# Altium integrated library Maxim Digital Potentiometers.IntLib: 1045 symbols (part 28 of 42)
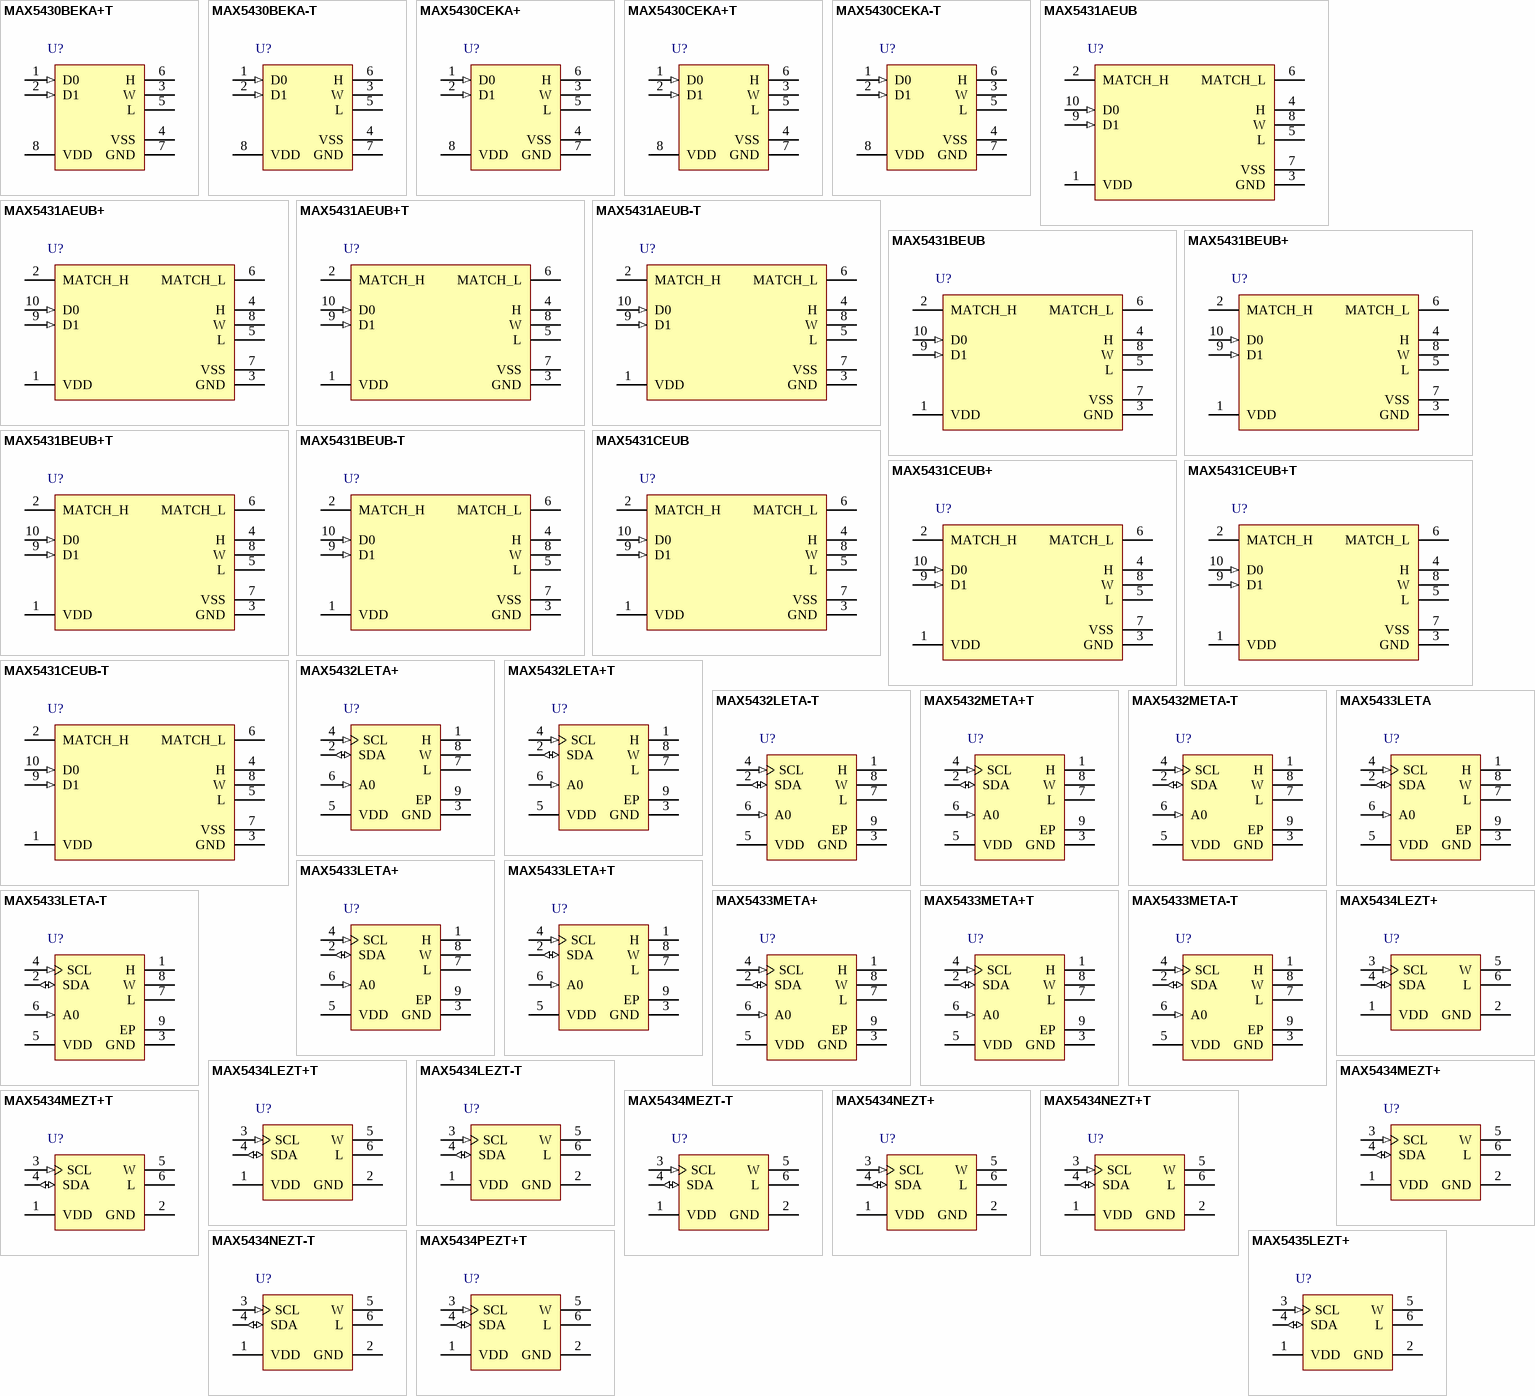
[diagram p56: symbols MAX5430BEKA+T to MAX5435LEZT+]

## MAX5431AEUB-T
designator U?
+/-15 V Digitally Programmable Precision Voltage Divider for PGAs with 2-Wire Parallel Control Interface, Volatile, 4 Steps, -40 to 85 degC, 10-pin uMAX (U10-2), Tape and Reel; PartNumber: MAX5431AEUB-T; DatasheetVersion: Rev. 2; PackageVersion: Rev. L, 07/2008; PackageReference: U10-2; PackageDescription: 10-Pin Micro-MAX, Thin Shrink Small-Outline (U10-2), Body 3 x 3 mm, Pitch 0.5 mm; Supplier 1: Mouser; Supplier Part Number 1: N/A; Applications: Precision Voltage Divider; Control Interface: 2-Wire Parallel; Features: Op-Amp Input Bias Current Comp. Resistor; Mounting Technology: Surface Mount; Code_JEDEC: MO-187; ComponentLink1Description: Manufacturer URL; ComponentLink1URL: http://www.maximintegrated.com/; ComponentLink2Description: Datasheet; ComponentLink2URL: http://datasheets.maximintegrated.com/en/ds/MAX5430-MAX5431.pdf; ComponentLink3Description: Package Specification; ComponentLink3URL: http://pdfserv.maximintegrated.com/package_dwgs/21-0061.PDF
footprint MAXM-U10-2_N (SOP, 10-Leads, Body 3x3mm, Pitch 0.5mm, IPC Medium Density)
footprint MAXM-U10-2_L (SOP, 10-Leads, Body 3x3mm, Pitch 0.5mm, IPC High Density)
footprint MAXM-U10-2_M (SOP, 10-Leads, Body 3x3mm, Pitch 0.5mm, IPC Low Density)
pins: 1 VDD (power) "Positive Power Supply", 2 MATCH_H "Matching Resistor High Terminal", 3 GND (power) "Ground", 4 H "High Terminal of Resistive-Divider", 5 L "Low Terminal of Resistive-Divider", 6 MATCH_L "Matching Resistor Low Terminal", 7 VSS (power) "Negative Power Supply", 8 W "Wiper Terminal of Resistive-Divider", 9 D1 (in) "Second Bit Digital Input (MSB)", 10 D0 (in) "First Bit Digital Input (LSB)"

## MAX5431BEUB
designator U?
+/-15 V Digitally Programmable Precision Voltage Divider for PGAs with 2-Wire Parallel Control Interface, Volatile, 4 Steps, -40 to 85 degC, 10-pin uMAX (U10-2); PartNumber: MAX5431BEUB; DatasheetVersion: Rev. 2; PackageVersion: Rev. L, 07/2008; PackageReference: U10-2; PackageDescription: 10-Pin Micro-MAX, Thin Shrink Small-Outline (U10-2), Body 3 x 3 mm, Pitch 0.5 mm; Supplier 1: Mouser; Supplier Part Number 1: N/A; Applications: Precision Voltage Divider; Control Interface: 2-Wire Parallel; Features: Op-Amp Input Bias Current Comp. Resistor; Mounting Technology: Surface Mount; Code_JEDEC: MO-187; ComponentLink1Description: Manufacturer URL; ComponentLink1URL: http://www.maximintegrated.com/; ComponentLink2Description: Datasheet; ComponentLink2URL: http://datasheets.maximintegrated.com/en/ds/MAX5430-MAX5431.pdf; ComponentLink3Description: Package Specification; ComponentLink3URL: http://pdfserv.maximintegrated.com/package_dwgs/21-0061.PDF
footprint MAXM-U10-2_N (SOP, 10-Leads, Body 3x3mm, Pitch 0.5mm, IPC Medium Density)
footprint MAXM-U10-2_L (SOP, 10-Leads, Body 3x3mm, Pitch 0.5mm, IPC High Density)
footprint MAXM-U10-2_M (SOP, 10-Leads, Body 3x3mm, Pitch 0.5mm, IPC Low Density)
pins: 1 VDD (power) "Positive Power Supply", 2 MATCH_H "Matching Resistor High Terminal", 3 GND (power) "Ground", 4 H "High Terminal of Resistive-Divider", 5 L "Low Terminal of Resistive-Divider", 6 MATCH_L "Matching Resistor Low Terminal", 7 VSS (power) "Negative Power Supply", 8 W "Wiper Terminal of Resistive-Divider", 9 D1 (in) "Second Bit Digital Input (MSB)", 10 D0 (in) "First Bit Digital Input (LSB)"

## MAX5431BEUB+
designator U?
+/-15 V Digitally Programmable Precision Voltage Divider for PGAs with 2-Wire Parallel Control Interface, Volatile, 4 Steps, -40 to 85 degC, 10-pin uMAX (U10+2), Pb-Free; PartNumber: MAX5431BEUB+; DatasheetVersion: Rev. 2; PackageVersion: Rev. L, 07/2008; PackageReference: U10+2; PackageDescription: 10-Pin Micro-MAX, Thin Shrink Small-Outline (U10+2), Body 3 x 3 mm, Pitch 0.5 mm; Supplier 1: Digi-Key; Supplier Part Number 1: MAX5431BEUB+-ND; Supplier 2: Mouser; Supplier Part Number 2: 700-MAX5431BEUB; Applications: Precision Voltage Divider; Control Interface: 2-Wire Parallel; Features: Op-Amp Input Bias Current Comp. Resistor; Mounting Technology: Surface Mount; Code_JEDEC: MO-187; ComponentLink1Description: Manufacturer URL; ComponentLink1URL: http://www.maximintegrated.com/; ComponentLink2Description: Datasheet; ComponentLink2URL: http://datasheets.maximintegrated.com/en/ds/MAX5430-MAX5431.pdf; ComponentLink3Description: Package Specification; ComponentLink3URL: http://pdfserv.maximintegrated.com/package_dwgs/21-0061.PDF
footprint MAXM-U10+2_N (SOP, 10-Leads, Body 3x3mm, Pitch 0.5mm, IPC Medium Density)
footprint MAXM-U10+2_L (SOP, 10-Leads, Body 3x3mm, Pitch 0.5mm, IPC High Density)
footprint MAXM-U10+2_M (SOP, 10-Leads, Body 3x3mm, Pitch 0.5mm, IPC Low Density)
pins: 1 VDD (power) "Positive Power Supply", 2 MATCH_H "Matching Resistor High Terminal", 3 GND (power) "Ground", 4 H "High Terminal of Resistive-Divider", 5 L "Low Terminal of Resistive-Divider", 6 MATCH_L "Matching Resistor Low Terminal", 7 VSS (power) "Negative Power Supply", 8 W "Wiper Terminal of Resistive-Divider", 9 D1 (in) "Second Bit Digital Input (MSB)", 10 D0 (in) "First Bit Digital Input (LSB)"

## MAX5431BEUB+T
designator U?
+/-15 V Digitally Programmable Precision Voltage Divider for PGAs with 2-Wire Parallel Control Interface, Volatile, 4 Steps, -40 to 85 degC, 10-pin uMAX (U10+2), Pb-Free, Tape and Reel; PartNumber: MAX5431BEUB+T; DatasheetVersion: Rev. 2; PackageVersion: Rev. L, 07/2008; PackageReference: U10+2; PackageDescription: 10-Pin Micro-MAX, Thin Shrink Small-Outline (U10+2), Body 3 x 3 mm, Pitch 0.5 mm; Supplier 1: Digi-Key; Supplier Part Number 1: MAX5431BEUB+T-ND; Supplier 2: Mouser; Supplier Part Number 2: 700-MAX5431BEUBT; Applications: Precision Voltage Divider; Control Interface: 2-Wire Parallel; Features: Op-Amp Input Bias Current Comp. Resistor; Mounting Technology: Surface Mount; Code_JEDEC: MO-187; ComponentLink1Description: Manufacturer URL; ComponentLink1URL: http://www.maximintegrated.com/; ComponentLink2Description: Datasheet; ComponentLink2URL: http://datasheets.maximintegrated.com/en/ds/MAX5430-MAX5431.pdf; ComponentLink3Description: Package Specification; ComponentLink3URL: http://pdfserv.maximintegrated.com/package_dwgs/21-0061.PDF
footprint MAXM-U10+2_N (SOP, 10-Leads, Body 3x3mm, Pitch 0.5mm, IPC Medium Density)
footprint MAXM-U10+2_L (SOP, 10-Leads, Body 3x3mm, Pitch 0.5mm, IPC High Density)
footprint MAXM-U10+2_M (SOP, 10-Leads, Body 3x3mm, Pitch 0.5mm, IPC Low Density)
pins: 1 VDD (power) "Positive Power Supply", 2 MATCH_H "Matching Resistor High Terminal", 3 GND (power) "Ground", 4 H "High Terminal of Resistive-Divider", 5 L "Low Terminal of Resistive-Divider", 6 MATCH_L "Matching Resistor Low Terminal", 7 VSS (power) "Negative Power Supply", 8 W "Wiper Terminal of Resistive-Divider", 9 D1 (in) "Second Bit Digital Input (MSB)", 10 D0 (in) "First Bit Digital Input (LSB)"

## MAX5431BEUB-T
designator U?
+/-15 V Digitally Programmable Precision Voltage Divider for PGAs with 2-Wire Parallel Control Interface, Volatile, 4 Steps, -40 to 85 degC, 10-pin uMAX (U10-2), Tape and Reel; PartNumber: MAX5431BEUB-T; DatasheetVersion: Rev. 2; PackageVersion: Rev. L, 07/2008; PackageReference: U10-2; PackageDescription: 10-Pin Micro-MAX, Thin Shrink Small-Outline (U10-2), Body 3 x 3 mm, Pitch 0.5 mm; Supplier 1: Mouser; Supplier Part Number 1: N/A; Applications: Precision Voltage Divider; Control Interface: 2-Wire Parallel; Features: Op-Amp Input Bias Current Comp. Resistor; Mounting Technology: Surface Mount; Code_JEDEC: MO-187; ComponentLink1Description: Manufacturer URL; ComponentLink1URL: http://www.maximintegrated.com/; ComponentLink2Description: Datasheet; ComponentLink2URL: http://datasheets.maximintegrated.com/en/ds/MAX5430-MAX5431.pdf; ComponentLink3Description: Package Specification; ComponentLink3URL: http://pdfserv.maximintegrated.com/package_dwgs/21-0061.PDF
footprint MAXM-U10-2_N (SOP, 10-Leads, Body 3x3mm, Pitch 0.5mm, IPC Medium Density)
footprint MAXM-U10-2_L (SOP, 10-Leads, Body 3x3mm, Pitch 0.5mm, IPC High Density)
footprint MAXM-U10-2_M (SOP, 10-Leads, Body 3x3mm, Pitch 0.5mm, IPC Low Density)
pins: 1 VDD (power) "Positive Power Supply", 2 MATCH_H "Matching Resistor High Terminal", 3 GND (power) "Ground", 4 H "High Terminal of Resistive-Divider", 5 L "Low Terminal of Resistive-Divider", 6 MATCH_L "Matching Resistor Low Terminal", 7 VSS (power) "Negative Power Supply", 8 W "Wiper Terminal of Resistive-Divider", 9 D1 (in) "Second Bit Digital Input (MSB)", 10 D0 (in) "First Bit Digital Input (LSB)"

## MAX5431CEUB
designator U?
+/-15 V Digitally Programmable Precision Voltage Divider for PGAs with 2-Wire Parallel Control Interface, Volatile, 4 Steps, -40 to 85 degC, 10-pin uMAX (U10-2); PartNumber: MAX5431CEUB; DatasheetVersion: Rev. 2; PackageVersion: Rev. L, 07/2008; PackageReference: U10-2; PackageDescription: 10-Pin Micro-MAX, Thin Shrink Small-Outline (U10-2), Body 3 x 3 mm, Pitch 0.5 mm; Supplier 1: Mouser; Supplier Part Number 1: N/A; Applications: Precision Voltage Divider; Control Interface: 2-Wire Parallel; Features: Op-Amp Input Bias Current Comp. Resistor; Mounting Technology: Surface Mount; Code_JEDEC: MO-187; ComponentLink1Description: Manufacturer URL; ComponentLink1URL: http://www.maximintegrated.com/; ComponentLink2Description: Datasheet; ComponentLink2URL: http://datasheets.maximintegrated.com/en/ds/MAX5430-MAX5431.pdf; ComponentLink3Description: Package Specification; ComponentLink3URL: http://pdfserv.maximintegrated.com/package_dwgs/21-0061.PDF
footprint MAXM-U10-2_N (SOP, 10-Leads, Body 3x3mm, Pitch 0.5mm, IPC Medium Density)
footprint MAXM-U10-2_L (SOP, 10-Leads, Body 3x3mm, Pitch 0.5mm, IPC High Density)
footprint MAXM-U10-2_M (SOP, 10-Leads, Body 3x3mm, Pitch 0.5mm, IPC Low Density)
pins: 1 VDD (power) "Positive Power Supply", 2 MATCH_H "Matching Resistor High Terminal", 3 GND (power) "Ground", 4 H "High Terminal of Resistive-Divider", 5 L "Low Terminal of Resistive-Divider", 6 MATCH_L "Matching Resistor Low Terminal", 7 VSS (power) "Negative Power Supply", 8 W "Wiper Terminal of Resistive-Divider", 9 D1 (in) "Second Bit Digital Input (MSB)", 10 D0 (in) "First Bit Digital Input (LSB)"

## MAX5431CEUB+
designator U?
+/-15 V Digitally Programmable Precision Voltage Divider for PGAs with 2-Wire Parallel Control Interface, Volatile, 4 Steps, -40 to 85 degC, 10-pin uMAX (U10+2), Pb-Free,; PartNumber: MAX5431CEUB+; DatasheetVersion: Rev. 2; PackageVersion: Rev. L, 07/2008; PackageReference: U10+2; PackageDescription: 10-Pin Micro-MAX, Thin Shrink Small-Outline (U10+2), Body 3 x 3 mm, Pitch 0.5 mm; Supplier 1: Digi-Key; Supplier Part Number 1: MAX5431CEUB+-ND; Supplier 2: Mouser; Supplier Part Number 2: 700-MAX5431CEUB; Applications: Precision Voltage Divider; Control Interface: 2-Wire Parallel; Features: Op-Amp Input Bias Current Comp. Resistor; Mounting Technology: Surface Mount; Code_JEDEC: MO-187; ComponentLink1Description: Manufacturer URL; ComponentLink1URL: http://www.maximintegrated.com/; ComponentLink2Description: Datasheet; ComponentLink2URL: http://datasheets.maximintegrated.com/en/ds/MAX5430-MAX5431.pdf; ComponentLink3Description: Package Specification; ComponentLink3URL: http://pdfserv.maximintegrated.com/package_dwgs/21-0061.PDF
footprint MAXM-U10+2_N (SOP, 10-Leads, Body 3x3mm, Pitch 0.5mm, IPC Medium Density)
footprint MAXM-U10+2_L (SOP, 10-Leads, Body 3x3mm, Pitch 0.5mm, IPC High Density)
footprint MAXM-U10+2_M (SOP, 10-Leads, Body 3x3mm, Pitch 0.5mm, IPC Low Density)
pins: 1 VDD (power) "Positive Power Supply", 2 MATCH_H "Matching Resistor High Terminal", 3 GND (power) "Ground", 4 H "High Terminal of Resistive-Divider", 5 L "Low Terminal of Resistive-Divider", 6 MATCH_L "Matching Resistor Low Terminal", 7 VSS (power) "Negative Power Supply", 8 W "Wiper Terminal of Resistive-Divider", 9 D1 (in) "Second Bit Digital Input (MSB)", 10 D0 (in) "First Bit Digital Input (LSB)"

## MAX5431CEUB+T
designator U?
+/-15 V Digitally Programmable Precision Voltage Divider for PGAs with 2-Wire Parallel Control Interface, Volatile, 4 Steps, -40 to 85 degC, 10-pin uMAX (U10+2), Pb-Free, Tape and Reel; PartNumber: MAX5431CEUB+T; DatasheetVersion: Rev. 2; PackageVersion: Rev. L, 07/2008; PackageReference: U10+2; PackageDescription: 10-Pin Micro-MAX, Thin Shrink Small-Outline (U10+2), Body 3 x 3 mm, Pitch 0.5 mm; Supplier 1: Digi-Key; Supplier Part Number 1: MAX5431CEUB+T-ND; Supplier 2: Mouser; Supplier Part Number 2: 700-MAX5431CEUBT; Applications: Precision Voltage Divider; Control Interface: 2-Wire Parallel; Features: Op-Amp Input Bias Current Comp. Resistor; Mounting Technology: Surface Mount; Code_JEDEC: MO-187; ComponentLink1Description: Manufacturer URL; ComponentLink1URL: http://www.maximintegrated.com/; ComponentLink2Description: Datasheet; ComponentLink2URL: http://datasheets.maximintegrated.com/en/ds/MAX5430-MAX5431.pdf; ComponentLink3Description: Package Specification; ComponentLink3URL: http://pdfserv.maximintegrated.com/package_dwgs/21-0061.PDF
footprint MAXM-U10+2_N (SOP, 10-Leads, Body 3x3mm, Pitch 0.5mm, IPC Medium Density)
footprint MAXM-U10+2_L (SOP, 10-Leads, Body 3x3mm, Pitch 0.5mm, IPC High Density)
footprint MAXM-U10+2_M (SOP, 10-Leads, Body 3x3mm, Pitch 0.5mm, IPC Low Density)
pins: 1 VDD (power) "Positive Power Supply", 2 MATCH_H "Matching Resistor High Terminal", 3 GND (power) "Ground", 4 H "High Terminal of Resistive-Divider", 5 L "Low Terminal of Resistive-Divider", 6 MATCH_L "Matching Resistor Low Terminal", 7 VSS (power) "Negative Power Supply", 8 W "Wiper Terminal of Resistive-Divider", 9 D1 (in) "Second Bit Digital Input (MSB)", 10 D0 (in) "First Bit Digital Input (LSB)"

## MAX5431CEUB-T
designator U?
+/-15 V Digitally Programmable Precision Voltage Divider for PGAs with 2-Wire Parallel Control Interface, Volatile, 4 Steps, -40 to 85 degC, 10-pin uMAX (U10-2), Tape and Reel; PartNumber: MAX5431CEUB-T; DatasheetVersion: Rev. 2; PackageVersion: Rev. L, 07/2008; PackageReference: U10-2; PackageDescription: 10-Pin Micro-MAX, Thin Shrink Small-Outline (U10-2), Body 3 x 3 mm, Pitch 0.5 mm; Supplier 1: Mouser; Supplier Part Number 1: N/A; Applications: Precision Voltage Divider; Control Interface: 2-Wire Parallel; Features: Op-Amp Input Bias Current Comp. Resistor; Mounting Technology: Surface Mount; Code_JEDEC: MO-187; ComponentLink1Description: Manufacturer URL; ComponentLink1URL: http://www.maximintegrated.com/; ComponentLink2Description: Datasheet; ComponentLink2URL: http://datasheets.maximintegrated.com/en/ds/MAX5430-MAX5431.pdf; ComponentLink3Description: Package Specification; ComponentLink3URL: http://pdfserv.maximintegrated.com/package_dwgs/21-0061.PDF
footprint MAXM-U10-2_N (SOP, 10-Leads, Body 3x3mm, Pitch 0.5mm, IPC Medium Density)
footprint MAXM-U10-2_L (SOP, 10-Leads, Body 3x3mm, Pitch 0.5mm, IPC High Density)
footprint MAXM-U10-2_M (SOP, 10-Leads, Body 3x3mm, Pitch 0.5mm, IPC Low Density)
pins: 1 VDD (power) "Positive Power Supply", 2 MATCH_H "Matching Resistor High Terminal", 3 GND (power) "Ground", 4 H "High Terminal of Resistive-Divider", 5 L "Low Terminal of Resistive-Divider", 6 MATCH_L "Matching Resistor Low Terminal", 7 VSS (power) "Negative Power Supply", 8 W "Wiper Terminal of Resistive-Divider", 9 D1 (in) "Second Bit Digital Input (MSB)", 10 D0 (in) "First Bit Digital Input (LSB)"

## MAX5432LETA+
designator U?
I2C, Digital Potentiometers, 50 kohm Resistor Divider with 2-Wire Serial Control Interface, Non-Volatile, Linear Taper, 32 Steps, -40 to 85 degC, 8-pin TDFN-EP (T833+2), Pb-Free; PartNumber: MAX5432LETA+; DatasheetVersion: Rev. 3; PackageVersion: Rev. J, 08/2009; PackageReference: T833+2; PackageDescription: 8-Pin Plastic Very Very Thin Dual Flatpack No Leads, Exposed Pad (T833+2); Supplier 1: Mouser; Supplier Part Number 1: N/A; Control Interface: 2-Wire Serial; Features: EEPROM Wiper Memory; Mounting Technology: Surface Mount; Code_JEDEC: MO229; ComponentLink1Description: Manufacturer URL; ComponentLink1URL: http://www.maximintegrated.com/; ComponentLink2Description: Datasheet; ComponentLink2URL: http://datasheets.maximintegrated.com/en/ds/MAX5432-MAX5435.pdf; ComponentLink3Description: Package Specification; ComponentLink3URL: http://pdfserv.maximintegrated.com/package_dwgs/21-0137.PDF
footprint MAXM-T833+2_V (SON, 8-Leads, Body 3x3 mm, Pitch 0.65mm, Thermal Pad 2.3x1.5mm)
pins: 1 H "High Terminal", 2 SDA (io) "I2C-Compatible Interface Data Input", 3 GND (power) "Ground", 4 SCL (in) "I2C-Compatible Interface Clock Input", 5 VDD (power) "Power-Supply Input. Bypass with a 0.1uF capacitor from VDD to GND.", 6 A0 (in) "Address Input. Sets the I2C address. Connect to VDD or GND. Do not leave A0 floating.", 7 L "Low Terminal", 8 W "Wiper Terminal", 9 EP (power) "Exposed Pad. Internally connected to GND."

## MAX5432LETA+T
designator U?
I2C, Digital Potentiometers, 50 kohm Resistor Divider with 2-Wire Serial Control Interface, Non-Volatile, Linear Taper, 32 Steps, -40 to 85 degC, 8-pin TDFN-EP (T833+2), Pb-Free, Tape and Reel; PartNumber: MAX5432LETA+T; DatasheetVersion: Rev. 3; PackageVersion: Rev. J, 08/2009; PackageReference: T833+2; PackageDescription: 8-Pin Plastic Very Very Thin Dual Flatpack No Leads, Exposed Pad (T833+2); Supplier 1: Digi-Key; Supplier Part Number 1: MAX5432LETA+TTR-ND; Supplier 2: Digi-Key; Supplier Part Number 2: MAX5432LETA+TCT-ND; Supplier 3: Digi-Key; Supplier Part Number 3: MAX5432LETA+TDKR-ND; Supplier 4: Mouser; Supplier Part Number 4: 700-MAX5432LETAT; Control Interface: 2-Wire Serial; Features: EEPROM Wiper Memory; Mounting Technology: Surface Mount; Code_JEDEC: MO229; ComponentLink1Description: Manufacturer URL; ComponentLink1URL: http://www.maximintegrated.com/; ComponentLink2Description: Datasheet; ComponentLink2URL: http://datasheets.maximintegrated.com/en/ds/MAX5432-MAX5435.pdf; ComponentLink3Description: Package Specification; ComponentLink3URL: http://pdfserv.maximintegrated.com/package_dwgs/21-0137.PDF
footprint MAXM-T833+2_V (SON, 8-Leads, Body 3x3 mm, Pitch 0.65mm, Thermal Pad 2.3x1.5mm)
pins: 1 H "High Terminal", 2 SDA (io) "I2C-Compatible Interface Data Input", 3 GND (power) "Ground", 4 SCL (in) "I2C-Compatible Interface Clock Input", 5 VDD (power) "Power-Supply Input. Bypass with a 0.1uF capacitor from VDD to GND.", 6 A0 (in) "Address Input. Sets the I2C address. Connect to VDD or GND. Do not leave A0 floating.", 7 L "Low Terminal", 8 W "Wiper Terminal", 9 EP (power) "Exposed Pad. Internally connected to GND."

## MAX5432LETA-T
designator U?
I2C, Digital Potentiometers, 50 kohm Resistor Divider with 2-Wire Serial Control Interface, Non-Volatile, Linear Taper, 32 Steps, -40 to 85 degC, 8-pin TDFN-EP (T833-2), Tape and Reel; PartNumber: MAX5432LETA-T; DatasheetVersion: Rev. 3; PackageVersion: Rev. J, 08/2009; PackageReference: T833-2; PackageDescription: 8-Pin Plastic Very Very Thin Dual Flatpack No Leads, Exposed Pad, Body 3 x 3 mm, Pitch 0.65 mm; Supplier 1: Mouser; Supplier Part Number 1: N/A; Control Interface: 2-Wire Serial; Features: EEPROM Wiper Memory; Mounting Technology: Surface Mount; Code_JEDEC: MO229; ComponentLink1Description: Manufacturer URL; ComponentLink1URL: http://www.maximintegrated.com/; ComponentLink2Description: Datasheet; ComponentLink2URL: http://datasheets.maximintegrated.com/en/ds/MAX5432-MAX5435.pdf; ComponentLink3Description: Package Specification; ComponentLink3URL: http://pdfserv.maximintegrated.com/package_dwgs/21-0137.PDF
footprint MAXM-T833-2_V (SON, 8-Leads, Body 3x3mm, Pitch 0.65mm, Thermal Pad 2.3x1.5mm, Recommended)
pins: 1 H "High Terminal", 2 SDA (io) "I2C-Compatible Interface Data Input", 3 GND (power) "Ground", 4 SCL (in) "I2C-Compatible Interface Clock Input", 5 VDD (power) "Power-Supply Input. Bypass with a 0.1uF capacitor from VDD to GND.", 6 A0 (in) "Address Input. Sets the I2C address. Connect to VDD or GND. Do not leave A0 floating.", 7 L "Low Terminal", 8 W "Wiper Terminal", 9 EP (power) "Exposed Pad. Internally connected to GND."

## MAX5432META+T
designator U?
I2C, Digital Potentiometers, 50 kohm Resistor Divider with 2-Wire Serial Control Interface, Non-Volatile, Linear Taper, 32 Steps, -40 to 85 degC, 8-pin TDFN-EP (T833+2), Pb-Free, Tape and Reel; PartNumber: MAX5432META+T; DatasheetVersion: Rev. 3; PackageVersion: Rev. J, 08/2009; PackageReference: T833+2; PackageDescription: 8-Pin Plastic Very Very Thin Dual Flatpack No Leads, Exposed Pad (T833+2); Supplier 1: Digi-Key; Supplier Part Number 1: MAX5432META+T-ND; Supplier 2: Mouser; Supplier Part Number 2: 700-MAX5432METAT; Control Interface: 2-Wire Serial; Features: EEPROM Wiper Memory; Mounting Technology: Surface Mount; Code_JEDEC: MO229; ComponentLink1Description: Manufacturer URL; ComponentLink1URL: http://www.maximintegrated.com/; ComponentLink2Description: Datasheet; ComponentLink2URL: http://datasheets.maximintegrated.com/en/ds/MAX5432-MAX5435.pdf; ComponentLink3Description: Package Specification; ComponentLink3URL: http://pdfserv.maximintegrated.com/package_dwgs/21-0137.PDF
footprint MAXM-T833+2_V (SON, 8-Leads, Body 3x3 mm, Pitch 0.65mm, Thermal Pad 2.3x1.5mm)
pins: 1 H "High Terminal", 2 SDA (io) "I2C-Compatible Interface Data Input", 3 GND (power) "Ground", 4 SCL (in) "I2C-Compatible Interface Clock Input", 5 VDD (power) "Power-Supply Input. Bypass with a 0.1uF capacitor from VDD to GND.", 6 A0 (in) "Address Input. Sets the I2C address. Connect to VDD or GND. Do not leave A0 floating.", 7 L "Low Terminal", 8 W "Wiper Terminal", 9 EP (power) "Exposed Pad. Internally connected to GND."

## MAX5432META-T
designator U?
I2C, Digital Potentiometers, 50 kohm Resistor Divider with 2-Wire Serial Control Interface, Non-Volatile, Linear Taper, 32 Steps, -40 to 85 degC, 8-pin TDFN-EP (T833-2), Tape and Reel; PartNumber: MAX5432META-T; DatasheetVersion: Rev. 3; PackageVersion: Rev. J, 08/2009; PackageReference: T833-2; PackageDescription: 8-Pin Plastic Very Very Thin Dual Flatpack No Leads, Exposed Pad, Body 3 x 3 mm, Pitch 0.65 mm; Supplier 1: Mouser; Supplier Part Number 1: N/A; Control Interface: 2-Wire Serial; Features: EEPROM Wiper Memory; Mounting Technology: Surface Mount; Code_JEDEC: MO229; ComponentLink1Description: Manufacturer URL; ComponentLink1URL: http://www.maximintegrated.com/; ComponentLink2Description: Datasheet; ComponentLink2URL: http://datasheets.maximintegrated.com/en/ds/MAX5432-MAX5435.pdf; ComponentLink3Description: Package Specification; ComponentLink3URL: http://pdfserv.maximintegrated.com/package_dwgs/21-0137.PDF
footprint MAXM-T833-2_V (SON, 8-Leads, Body 3x3mm, Pitch 0.65mm, Thermal Pad 2.3x1.5mm, Recommended)
pins: 1 H "High Terminal", 2 SDA (io) "I2C-Compatible Interface Data Input", 3 GND (power) "Ground", 4 SCL (in) "I2C-Compatible Interface Clock Input", 5 VDD (power) "Power-Supply Input. Bypass with a 0.1uF capacitor from VDD to GND.", 6 A0 (in) "Address Input. Sets the I2C address. Connect to VDD or GND. Do not leave A0 floating.", 7 L "Low Terminal", 8 W "Wiper Terminal", 9 EP (power) "Exposed Pad. Internally connected to GND."

## MAX5433LETA
designator U?
Digital Potentiometer, 100 kohm Resistor Divider with 2-Wire Serial Control Interface, Non-Volatile, Linear Taper, 32 Steps, -40 to 85 degC, 8-pin TDFN-EP (T833-2); PartNumber: MAX5433LETA; DatasheetVersion: Rev. 3; PackageVersion: Rev. J, 08/2009; PackageReference: T833-2; PackageDescription: 8-Pin Plastic Very Very Thin Dual Flatpack No Leads, Exposed Pad, Body 3 x 3 mm, Pitch 0.65 mm; Supplier 1: Mouser; Supplier Part Number 1: N/A; Control Interface: 2-Wire Serial; Features: EEPROM Wiper Memory; Mounting Technology: Surface Mount; Code_JEDEC: MO229; ComponentLink1Description: Manufacturer URL; ComponentLink1URL: http://www.maximintegrated.com/; ComponentLink2Description: Datasheet; ComponentLink2URL: http://datasheets.maximintegrated.com/en/ds/MAX5432-MAX5435.pdf; ComponentLink3Description: Package Specification; ComponentLink3URL: http://pdfserv.maximintegrated.com/package_dwgs/21-0137.PDF
footprint MAXM-T833-2_V (SON, 8-Leads, Body 3x3mm, Pitch 0.65mm, Thermal Pad 2.3x1.5mm, Recommended)
pins: 1 H "High Terminal", 2 SDA (io) "I2C-Compatible Interface Data Input", 3 GND (power) "Ground", 4 SCL (in) "I2C-Compatible Interface Clock Input", 5 VDD (power) "Power-Supply Input. Bypass with a 0.1uF capacitor from VDD to GND.", 6 A0 (in) "Address Input. Sets the I2C address. Connect to VDD or GND. Do not leave A0 floating.", 7 L "Low Terminal", 8 W "Wiper Terminal", 9 EP (power) "Exposed Pad. Internally connected to GND."

## MAX5433LETA+
designator U?
Digital Potentiometer, 100 kohm Resistor Divider with 2-Wire Serial Control Interface, Non-Volatile, Linear Taper, 32 Steps, -40 to 85 degC, 8-pin TDFN-EP (T833+2), Pb-Free; PartNumber: MAX5433LETA+; DatasheetVersion: Rev. 3; PackageVersion: Rev. J, 08/2009; PackageReference: T833+2; PackageDescription: 8-Pin Plastic Very Very Thin Dual Flatpack No Leads, Exposed Pad (T833+2); Supplier 1: Mouser; Supplier Part Number 1: N/A; Control Interface: 2-Wire Serial; Features: EEPROM Wiper Memory; Mounting Technology: Surface Mount; Code_JEDEC: MO229; ComponentLink1Description: Manufacturer URL; ComponentLink1URL: http://www.maximintegrated.com/; ComponentLink2Description: Datasheet; ComponentLink2URL: http://datasheets.maximintegrated.com/en/ds/MAX5432-MAX5435.pdf; ComponentLink3Description: Package Specification; ComponentLink3URL: http://pdfserv.maximintegrated.com/package_dwgs/21-0137.PDF
footprint MAXM-T833+2_V (SON, 8-Leads, Body 3x3 mm, Pitch 0.65mm, Thermal Pad 2.3x1.5mm)
pins: 1 H "High Terminal", 2 SDA (io) "I2C-Compatible Interface Data Input", 3 GND (power) "Ground", 4 SCL (in) "I2C-Compatible Interface Clock Input", 5 VDD (power) "Power-Supply Input. Bypass with a 0.1uF capacitor from VDD to GND.", 6 A0 (in) "Address Input. Sets the I2C address. Connect to VDD or GND. Do not leave A0 floating.", 7 L "Low Terminal", 8 W "Wiper Terminal", 9 EP (power) "Exposed Pad. Internally connected to GND."

## MAX5433LETA+T
designator U?
Digital Potentiometer, 100 kohm Resistor Divider with 2-Wire Serial Control Interface, Non-Volatile, Linear Taper, 32 Steps, -40 to 85 degC, 8-pin TDFN-EP (T833+2), Pb-Free, Tape and Reel; PartNumber: MAX5433LETA+T; DatasheetVersion: Rev. 3; PackageVersion: Rev. J, 08/2009; PackageReference: T833+2; PackageDescription: 8-Pin Plastic Very Very Thin Dual Flatpack No Leads, Exposed Pad (T833+2); Supplier 1: Digi-Key; Supplier Part Number 1: MAX5433LETA+TTR-ND; Supplier 2: Digi-Key; Supplier Part Number 2: MAX5433LETA+TCT-ND; Supplier 3: Digi-Key; Supplier Part Number 3: MAX5433LETA+TDKR-ND; Supplier 4: Mouser; Supplier Part Number 4: 700-MAX5433LETAT; Control Interface: 2-Wire Serial; Features: EEPROM Wiper Memory; Mounting Technology: Surface Mount; Code_JEDEC: MO229; ComponentLink1Description: Manufacturer URL; ComponentLink1URL: http://www.maximintegrated.com/; ComponentLink2Description: Datasheet; ComponentLink2URL: http://datasheets.maximintegrated.com/en/ds/MAX5432-MAX5435.pdf; ComponentLink3Description: Package Specification; ComponentLink3URL: http://pdfserv.maximintegrated.com/package_dwgs/21-0137.PDF
footprint MAXM-T833+2_V (SON, 8-Leads, Body 3x3 mm, Pitch 0.65mm, Thermal Pad 2.3x1.5mm)
pins: 1 H "High Terminal", 2 SDA (io) "I2C-Compatible Interface Data Input", 3 GND (power) "Ground", 4 SCL (in) "I2C-Compatible Interface Clock Input", 5 VDD (power) "Power-Supply Input. Bypass with a 0.1uF capacitor from VDD to GND.", 6 A0 (in) "Address Input. Sets the I2C address. Connect to VDD or GND. Do not leave A0 floating.", 7 L "Low Terminal", 8 W "Wiper Terminal", 9 EP (power) "Exposed Pad. Internally connected to GND."

## MAX5433LETA-T
designator U?
Digital Potentiometer, 100 kohm Resistor Divider with 2-Wire Serial Control Interface, Non-Volatile, Linear Taper, 32 Steps, -40 to 85 degC, 8-pin TDFN-EP (T833-2), Tape and Reel; PartNumber: MAX5433LETA-T; DatasheetVersion: Rev. 3; PackageVersion: Rev. J, 08/2009; PackageReference: T833-2; PackageDescription: 8-Pin Plastic Very Very Thin Dual Flatpack No Leads, Exposed Pad, Body 3 x 3 mm, Pitch 0.65 mm; Supplier 1: Mouser; Supplier Part Number 1: N/A; Control Interface: 2-Wire Serial; Features: EEPROM Wiper Memory; Mounting Technology: Surface Mount; Code_JEDEC: MO229; ComponentLink1Description: Manufacturer URL; ComponentLink1URL: http://www.maximintegrated.com/; ComponentLink2Description: Datasheet; ComponentLink2URL: http://datasheets.maximintegrated.com/en/ds/MAX5432-MAX5435.pdf; ComponentLink3Description: Package Specification; ComponentLink3URL: http://pdfserv.maximintegrated.com/package_dwgs/21-0137.PDF
footprint MAXM-T833-2_V (SON, 8-Leads, Body 3x3mm, Pitch 0.65mm, Thermal Pad 2.3x1.5mm, Recommended)
pins: 1 H "High Terminal", 2 SDA (io) "I2C-Compatible Interface Data Input", 3 GND (power) "Ground", 4 SCL (in) "I2C-Compatible Interface Clock Input", 5 VDD (power) "Power-Supply Input. Bypass with a 0.1uF capacitor from VDD to GND.", 6 A0 (in) "Address Input. Sets the I2C address. Connect to VDD or GND. Do not leave A0 floating.", 7 L "Low Terminal", 8 W "Wiper Terminal", 9 EP (power) "Exposed Pad. Internally connected to GND."

## MAX5433META+
designator U?
Digital Potentiometer, 100 kohm Resistor Divider with 2-Wire Serial Control Interface, Non-Volatile, Linear Taper, 32 Steps, -40 to 85 degC, 8-pin TDFN-EP (T833+2), Pb-Free; PartNumber: MAX5433META+; DatasheetVersion: Rev. 3; PackageVersion: Rev. J, 08/2009; PackageReference: T833+2; PackageDescription: 8-Pin Plastic Very Very Thin Dual Flatpack No Leads, Exposed Pad (T833+2); Supplier 1: Mouser; Supplier Part Number 1: N/A; Control Interface: 2-Wire Serial; Features: EEPROM Wiper Memory; Mounting Technology: Surface Mount; Code_JEDEC: MO229; ComponentLink1Description: Manufacturer URL; ComponentLink1URL: http://www.maximintegrated.com/; ComponentLink2Description: Datasheet; ComponentLink2URL: http://datasheets.maximintegrated.com/en/ds/MAX5432-MAX5435.pdf; ComponentLink3Description: Package Specification; ComponentLink3URL: http://pdfserv.maximintegrated.com/package_dwgs/21-0137.PDF
footprint MAXM-T833+2_V (SON, 8-Leads, Body 3x3 mm, Pitch 0.65mm, Thermal Pad 2.3x1.5mm)
pins: 1 H "High Terminal", 2 SDA (io) "I2C-Compatible Interface Data Input", 3 GND (power) "Ground", 4 SCL (in) "I2C-Compatible Interface Clock Input", 5 VDD (power) "Power-Supply Input. Bypass with a 0.1uF capacitor from VDD to GND.", 6 A0 (in) "Address Input. Sets the I2C address. Connect to VDD or GND. Do not leave A0 floating.", 7 L "Low Terminal", 8 W "Wiper Terminal", 9 EP (power) "Exposed Pad. Internally connected to GND."

## MAX5433META+T
designator U?
Digital Potentiometer, 100 kohm Resistor Divider with 2-Wire Serial Control Interface, Non-Volatile, Linear Taper, 32 Steps, -40 to 85 degC, 8-pin TDFN-EP (T833+2), Pb-Free, Tape and Reel; PartNumber: MAX5433META+T; DatasheetVersion: Rev. 3; PackageVersion: Rev. J, 08/2009; PackageReference: T833+2; PackageDescription: 8-Pin Plastic Very Very Thin Dual Flatpack No Leads, Exposed Pad (T833+2); Supplier 1: Digi-Key; Supplier Part Number 1: MAX5433META+T-ND; Supplier 2: Mouser; Supplier Part Number 2: 700-MAX5433METAT; Control Interface: 2-Wire Serial; Features: EEPROM Wiper Memory; Mounting Technology: Surface Mount; Code_JEDEC: MO229; ComponentLink1Description: Manufacturer URL; ComponentLink1URL: http://www.maximintegrated.com/; ComponentLink2Description: Datasheet; ComponentLink2URL: http://datasheets.maximintegrated.com/en/ds/MAX5432-MAX5435.pdf; ComponentLink3Description: Package Specification; ComponentLink3URL: http://pdfserv.maximintegrated.com/package_dwgs/21-0137.PDF
footprint MAXM-T833+2_V (SON, 8-Leads, Body 3x3 mm, Pitch 0.65mm, Thermal Pad 2.3x1.5mm)
pins: 1 H "High Terminal", 2 SDA (io) "I2C-Compatible Interface Data Input", 3 GND (power) "Ground", 4 SCL (in) "I2C-Compatible Interface Clock Input", 5 VDD (power) "Power-Supply Input. Bypass with a 0.1uF capacitor from VDD to GND.", 6 A0 (in) "Address Input. Sets the I2C address. Connect to VDD or GND. Do not leave A0 floating.", 7 L "Low Terminal", 8 W "Wiper Terminal", 9 EP (power) "Exposed Pad. Internally connected to GND."

## MAX5433META-T
designator U?
Digital Potentiometer, 100 kohm Resistor Divider with 2-Wire Serial Control Interface, Non-Volatile, Linear Taper, 32 Steps, -40 to 85 degC, 8-pin TDFN-EP (T833-2), Tape and Reel; PartNumber: MAX5433META-T; DatasheetVersion: Rev. 3; PackageVersion: Rev. J, 08/2009; PackageReference: T833-2; PackageDescription: 8-Pin Plastic Very Very Thin Dual Flatpack No Leads, Exposed Pad, Body 3 x 3 mm, Pitch 0.65 mm; Supplier 1: Mouser; Supplier Part Number 1: N/A; Control Interface: 2-Wire Serial; Features: EEPROM Wiper Memory; Mounting Technology: Surface Mount; Code_JEDEC: MO229; ComponentLink1Description: Manufacturer URL; ComponentLink1URL: http://www.maximintegrated.com/; ComponentLink2Description: Datasheet; ComponentLink2URL: http://datasheets.maximintegrated.com/en/ds/MAX5432-MAX5435.pdf; ComponentLink3Description: Package Specification; ComponentLink3URL: http://pdfserv.maximintegrated.com/package_dwgs/21-0137.PDF
footprint MAXM-T833-2_V (SON, 8-Leads, Body 3x3mm, Pitch 0.65mm, Thermal Pad 2.3x1.5mm, Recommended)
pins: 1 H "High Terminal", 2 SDA (io) "I2C-Compatible Interface Data Input", 3 GND (power) "Ground", 4 SCL (in) "I2C-Compatible Interface Clock Input", 5 VDD (power) "Power-Supply Input. Bypass with a 0.1uF capacitor from VDD to GND.", 6 A0 (in) "Address Input. Sets the I2C address. Connect to VDD or GND. Do not leave A0 floating.", 7 L "Low Terminal", 8 W "Wiper Terminal", 9 EP (power) "Exposed Pad. Internally connected to GND."

## MAX5434LEZT+
designator U?
I2C, Digital Potentiometers, 50 kohm Variable Resistor with 2-Wire Serial Control Interface, Non-Volatile, Linear Taper, 32 Steps, -40 to 85 degC, 6-pin TSOT (Z6+1), Pb-Free; PartNumber: MAX5434LEZT+; DatasheetVersion: Rev. 3; PackageVersion: Rev. D, 05/2011; PackageReference: Z6+1; PackageDescription: 6-Pin Thin Small-Outline Transistor (Z6+1), Body 2.9 x 1.6 mm, Pitch 0.95 mm; Supplier 1: Mouser; Supplier Part Number 1: N/A; Control Interface: 2-Wire Serial; Features: EEPROM Wiper Memory; Mounting Technology: Surface Mount; Code_JEDEC: MO-193; ComponentLink1Description: Manufacturer URL; ComponentLink1URL: http://www.maximintegrated.com/; ComponentLink2Description: Datasheet; ComponentLink2URL: http://datasheets.maximintegrated.com/en/ds/MAX5432-MAX5435.pdf; ComponentLink3Description: Package Specification; ComponentLink3URL: http://pdfserv.maximintegrated.com/package_dwgs/21-0114.PDF
footprint MAXM-Z6+1_N (SOT23, 6-Leads, Body 2.9x1.6mm, Pitch 0.95mm, IPC Medium Density)
footprint MAXM-Z6+1_L (SOT23, 6-Leads, Body 2.9x1.6mm, Pitch 0.95mm, IPC High Density)
footprint MAXM-Z6+1_M (SOT23, 6-Leads, Body 2.9x1.6mm, Pitch 0.95mm, IPC Low Density)
pins: 1 VDD (power) "Power-Supply Input. Bypass with a 0.1uF capacitor from VDD to GND", 2 GND (power) "Ground", 3 SCL (in) "I2C-Compatible Interface Clock Input", 4 SDA (io) "I2C-Compatible Interface Data Input", 5 W "Wiper Terminal", 6 L "Low Terminal"

## MAX5434LEZT+T
designator U?
I2C, Digital Potentiometers, 50 kohm Variable Resistor with 2-Wire Serial Control Interface, Non-Volatile, Linear Taper, 32 Steps, -40 to 85 degC, 6-pin TSOT (Z6+1), Pb-Free, Tape and Reel; PartNumber: MAX5434LEZT+T; DatasheetVersion: Rev. 3; PackageVersion: Rev. D, 05/2011; PackageReference: Z6+1; PackageDescription: 6-Pin Thin Small-Outline Transistor (Z6+1), Body 2.9 x 1.6 mm, Pitch 0.95 mm; Supplier 1: Digi-Key; Supplier Part Number 1: MAX5434LEZT+TTR-ND; Supplier 2: Digi-Key; Supplier Part Number 2: MAX5434LEZT+TCT-ND; Supplier 3: Digi-Key; Supplier Part Number 3: MAX5434LEZT+TDKR-ND; Supplier 4: Mouser; Supplier Part Number 4: 700-MAX5434LEZTT; Control Interface: 2-Wire Serial; Features: EEPROM Wiper Memory; Mounting Technology: Surface Mount; Code_JEDEC: MO-193; ComponentLink1Description: Manufacturer URL; ComponentLink1URL: http://www.maximintegrated.com/; ComponentLink2Description: Datasheet; ComponentLink2URL: http://datasheets.maximintegrated.com/en/ds/MAX5432-MAX5435.pdf; ComponentLink3Description: Package Specification; ComponentLink3URL: http://pdfserv.maximintegrated.com/package_dwgs/21-0114.PDF
footprint MAXM-Z6+1_N (SOT23, 6-Leads, Body 2.9x1.6mm, Pitch 0.95mm, IPC Medium Density)
footprint MAXM-Z6+1_L (SOT23, 6-Leads, Body 2.9x1.6mm, Pitch 0.95mm, IPC High Density)
footprint MAXM-Z6+1_M (SOT23, 6-Leads, Body 2.9x1.6mm, Pitch 0.95mm, IPC Low Density)
pins: 1 VDD (power) "Power-Supply Input. Bypass with a 0.1uF capacitor from VDD to GND", 2 GND (power) "Ground", 3 SCL (in) "I2C-Compatible Interface Clock Input", 4 SDA (io) "I2C-Compatible Interface Data Input", 5 W "Wiper Terminal", 6 L "Low Terminal"

## MAX5434LEZT-T
designator U?
I2C, Digital Potentiometers, 50 kohm Variable Resistor with 2-Wire Serial Control Interface, Non-Volatile, Linear Taper, 32 Steps, -40 to 85 degC, 6-pin TSOT (Z6-1), Tape and Reel; PartNumber: MAX5434LEZT-T; DatasheetVersion: Rev. 3; PackageVersion: Rev. D, 05/2011; PackageReference: Z6-1; PackageDescription: 6-Pin Thin Small-Outline Transistor (Z6-1), Body 2.9 x 1.6 mm, Pitch 0.95 mm; Supplier 1: Mouser; Supplier Part Number 1: N/A; Control Interface: 2-Wire Serial; Features: EEPROM Wiper Memory; Mounting Technology: Surface Mount; Code_JEDEC: MO-193; ComponentLink1Description: Manufacturer URL; ComponentLink1URL: http://www.maximintegrated.com/; ComponentLink2Description: Datasheet; ComponentLink2URL: http://datasheets.maximintegrated.com/en/ds/MAX5432-MAX5435.pdf; ComponentLink3Description: Package Specification; ComponentLink3URL: http://pdfserv.maximintegrated.com/package_dwgs/21-0114.PDF
footprint MAXM-Z6-1_N (SOT23, 6-Leads, Body 2.9x1.6mm, Pitch 0.95mm, IPC Medium Density)
footprint MAXM-Z6-1_L (SOT23, 6-Leads, Body 2.9x1.6mm, Pitch 0.95mm, IPC High Density)
footprint MAXM-Z6-1_M (SOT23, 6-Leads, Body 2.9x1.6mm, Pitch 0.95mm, IPC Low Density)
pins: 1 VDD (power) "Power-Supply Input. Bypass with a 0.1uF capacitor from VDD to GND", 2 GND (power) "Ground", 3 SCL (in) "I2C-Compatible Interface Clock Input", 4 SDA (io) "I2C-Compatible Interface Data Input", 5 W "Wiper Terminal", 6 L "Low Terminal"

## MAX5434MEZT+
designator U?
I2C, Digital Potentiometers, 50 kohm Variable Resistor with 2-Wire Serial Control Interface, Non-Volatile, Linear Taper, 32 Steps, -40 to 85 degC, 6-pin TSOT (Z6+1), Pb-Free; PartNumber: MAX5434MEZT+; DatasheetVersion: Rev. 3; PackageVersion: Rev. D, 05/2011; PackageReference: Z6+1; PackageDescription: 6-Pin Thin Small-Outline Transistor (Z6+1), Body 2.9 x 1.6 mm, Pitch 0.95 mm; Supplier 1: Mouser; Supplier Part Number 1: N/A; Control Interface: 2-Wire Serial; Features: EEPROM Wiper Memory; Mounting Technology: Surface Mount; Code_JEDEC: MO-193; ComponentLink1Description: Manufacturer URL; ComponentLink1URL: http://www.maximintegrated.com/; ComponentLink2Description: Datasheet; ComponentLink2URL: http://datasheets.maximintegrated.com/en/ds/MAX5432-MAX5435.pdf; ComponentLink3Description: Package Specification; ComponentLink3URL: http://pdfserv.maximintegrated.com/package_dwgs/21-0114.PDF
footprint MAXM-Z6+1_N (SOT23, 6-Leads, Body 2.9x1.6mm, Pitch 0.95mm, IPC Medium Density)
footprint MAXM-Z6+1_L (SOT23, 6-Leads, Body 2.9x1.6mm, Pitch 0.95mm, IPC High Density)
footprint MAXM-Z6+1_M (SOT23, 6-Leads, Body 2.9x1.6mm, Pitch 0.95mm, IPC Low Density)
pins: 1 VDD (power) "Power-Supply Input. Bypass with a 0.1uF capacitor from VDD to GND", 2 GND (power) "Ground", 3 SCL (in) "I2C-Compatible Interface Clock Input", 4 SDA (io) "I2C-Compatible Interface Data Input", 5 W "Wiper Terminal", 6 L "Low Terminal"

## MAX5434MEZT+T
designator U?
I2C, Digital Potentiometers, 50 kohm Variable Resistor with 2-Wire Serial Control Interface, Non-Volatile, Linear Taper, 32 Steps, -40 to 85 degC, 6-pin TSOT (Z6+1), Pb-Free, Tape and Reel; PartNumber: MAX5434MEZT+T; DatasheetVersion: Rev. 3; PackageVersion: Rev. D, 05/2011; PackageReference: Z6+1; PackageDescription: 6-Pin Thin Small-Outline Transistor (Z6+1), Body 2.9 x 1.6 mm, Pitch 0.95 mm; Supplier 1: Digi-Key; Supplier Part Number 1: MAX5434MEZT+T-ND; Supplier 2: Mouser; Supplier Part Number 2: 700-MAX5434MEZTT; Control Interface: 2-Wire Serial; Features: EEPROM Wiper Memory; Mounting Technology: Surface Mount; Code_JEDEC: MO-193; ComponentLink1Description: Manufacturer URL; ComponentLink1URL: http://www.maximintegrated.com/; ComponentLink2Description: Datasheet; ComponentLink2URL: http://datasheets.maximintegrated.com/en/ds/MAX5432-MAX5435.pdf; ComponentLink3Description: Package Specification; ComponentLink3URL: http://pdfserv.maximintegrated.com/package_dwgs/21-0114.PDF
footprint MAXM-Z6+1_N (SOT23, 6-Leads, Body 2.9x1.6mm, Pitch 0.95mm, IPC Medium Density)
footprint MAXM-Z6+1_L (SOT23, 6-Leads, Body 2.9x1.6mm, Pitch 0.95mm, IPC High Density)
footprint MAXM-Z6+1_M (SOT23, 6-Leads, Body 2.9x1.6mm, Pitch 0.95mm, IPC Low Density)
pins: 1 VDD (power) "Power-Supply Input. Bypass with a 0.1uF capacitor from VDD to GND", 2 GND (power) "Ground", 3 SCL (in) "I2C-Compatible Interface Clock Input", 4 SDA (io) "I2C-Compatible Interface Data Input", 5 W "Wiper Terminal", 6 L "Low Terminal"

## MAX5434MEZT-T
designator U?
I2C, Digital Potentiometers, 50 kohm Variable Resistor with 2-Wire Serial Control Interface, Non-Volatile, Linear Taper, 32 Steps, -40 to 85 degC, 6-pin TSOT (Z6-1), Tape and Reel; PartNumber: MAX5434MEZT-T; DatasheetVersion: Rev. 3; PackageVersion: Rev. D, 05/2011; PackageReference: Z6-1; PackageDescription: 6-Pin Thin Small-Outline Transistor (Z6-1), Body 2.9 x 1.6 mm, Pitch 0.95 mm; Supplier 1: Mouser; Supplier Part Number 1: N/A; Control Interface: 2-Wire Serial; Features: EEPROM Wiper Memory; Mounting Technology: Surface Mount; Code_JEDEC: MO-193; ComponentLink1Description: Manufacturer URL; ComponentLink1URL: http://www.maximintegrated.com/; ComponentLink2Description: Datasheet; ComponentLink2URL: http://datasheets.maximintegrated.com/en/ds/MAX5432-MAX5435.pdf; ComponentLink3Description: Package Specification; ComponentLink3URL: http://pdfserv.maximintegrated.com/package_dwgs/21-0114.PDF
footprint MAXM-Z6-1_N (SOT23, 6-Leads, Body 2.9x1.6mm, Pitch 0.95mm, IPC Medium Density)
footprint MAXM-Z6-1_L (SOT23, 6-Leads, Body 2.9x1.6mm, Pitch 0.95mm, IPC High Density)
footprint MAXM-Z6-1_M (SOT23, 6-Leads, Body 2.9x1.6mm, Pitch 0.95mm, IPC Low Density)
pins: 1 VDD (power) "Power-Supply Input. Bypass with a 0.1uF capacitor from VDD to GND", 2 GND (power) "Ground", 3 SCL (in) "I2C-Compatible Interface Clock Input", 4 SDA (io) "I2C-Compatible Interface Data Input", 5 W "Wiper Terminal", 6 L "Low Terminal"

## MAX5434NEZT+
designator U?
I2C, Digital Potentiometers, 50 kohm Variable Resistor with 2-Wire Serial Control Interface, Non-Volatile, Linear Taper, 32 Steps, -40 to 85 degC, 6-pin TSOT (Z6+1), Pb-Free; PartNumber: MAX5434NEZT+; DatasheetVersion: Rev. 3; PackageVersion: Rev. D, 05/2011; PackageReference: Z6+1; PackageDescription: 6-Pin Thin Small-Outline Transistor (Z6+1), Body 2.9 x 1.6 mm, Pitch 0.95 mm; Supplier 1: Mouser; Supplier Part Number 1: N/A; Control Interface: 2-Wire Serial; Features: EEPROM Wiper Memory; Mounting Technology: Surface Mount; Code_JEDEC: MO-193; ComponentLink1Description: Manufacturer URL; ComponentLink1URL: http://www.maximintegrated.com/; ComponentLink2Description: Datasheet; ComponentLink2URL: http://datasheets.maximintegrated.com/en/ds/MAX5432-MAX5435.pdf; ComponentLink3Description: Package Specification; ComponentLink3URL: http://pdfserv.maximintegrated.com/package_dwgs/21-0114.PDF
footprint MAXM-Z6+1_N (SOT23, 6-Leads, Body 2.9x1.6mm, Pitch 0.95mm, IPC Medium Density)
footprint MAXM-Z6+1_L (SOT23, 6-Leads, Body 2.9x1.6mm, Pitch 0.95mm, IPC High Density)
footprint MAXM-Z6+1_M (SOT23, 6-Leads, Body 2.9x1.6mm, Pitch 0.95mm, IPC Low Density)
pins: 1 VDD (power) "Power-Supply Input. Bypass with a 0.1uF capacitor from VDD to GND", 2 GND (power) "Ground", 3 SCL (in) "I2C-Compatible Interface Clock Input", 4 SDA (io) "I2C-Compatible Interface Data Input", 5 W "Wiper Terminal", 6 L "Low Terminal"

## MAX5434NEZT+T
designator U?
I2C, Digital Potentiometers, 50 kohm Variable Resistor with 2-Wire Serial Control Interface, Non-Volatile, Linear Taper, 32 Steps, -40 to 85 degC, 6-pin TSOT (Z6+1), Pb-Free, Tape and Reel; PartNumber: MAX5434NEZT+T; DatasheetVersion: Rev. 3; PackageVersion: Rev. D, 05/2011; PackageReference: Z6+1; PackageDescription: 6-Pin Thin Small-Outline Transistor (Z6+1), Body 2.9 x 1.6 mm, Pitch 0.95 mm; Supplier 1: Digi-Key; Supplier Part Number 1: MAX5434NEZT+TTR-ND; Supplier 2: Digi-Key; Supplier Part Number 2: MAX5434NEZT+TCT-ND; Supplier 3: Digi-Key; Supplier Part Number 3: MAX5434NEZT+TDKR-ND; Supplier 4: Mouser; Supplier Part Number 4: 700-MAX5434NEZTT; Control Interface: 2-Wire Serial; Features: EEPROM Wiper Memory; Mounting Technology: Surface Mount; Code_JEDEC: MO-193; ComponentLink1Description: Manufacturer URL; ComponentLink1URL: http://www.maximintegrated.com/; ComponentLink2Description: Datasheet; ComponentLink2URL: http://datasheets.maximintegrated.com/en/ds/MAX5432-MAX5435.pdf; ComponentLink3Description: Package Specification; ComponentLink3URL: http://pdfserv.maximintegrated.com/package_dwgs/21-0114.PDF
footprint MAXM-Z6+1_N (SOT23, 6-Leads, Body 2.9x1.6mm, Pitch 0.95mm, IPC Medium Density)
footprint MAXM-Z6+1_L (SOT23, 6-Leads, Body 2.9x1.6mm, Pitch 0.95mm, IPC High Density)
footprint MAXM-Z6+1_M (SOT23, 6-Leads, Body 2.9x1.6mm, Pitch 0.95mm, IPC Low Density)
pins: 1 VDD (power) "Power-Supply Input. Bypass with a 0.1uF capacitor from VDD to GND", 2 GND (power) "Ground", 3 SCL (in) "I2C-Compatible Interface Clock Input", 4 SDA (io) "I2C-Compatible Interface Data Input", 5 W "Wiper Terminal", 6 L "Low Terminal"

## MAX5434NEZT-T
designator U?
I2C, Digital Potentiometers, 50 kohm Variable Resistor with 2-Wire Serial Control Interface, Non-Volatile, Linear Taper, 32 Steps, -40 to 85 degC, 6-pin TSOT (Z6-1), Tape and Reel; PartNumber: MAX5434NEZT-T; DatasheetVersion: Rev. 3; PackageVersion: Rev. D, 05/2011; PackageReference: Z6-1; PackageDescription: 6-Pin Thin Small-Outline Transistor (Z6-1), Body 2.9 x 1.6 mm, Pitch 0.95 mm; Supplier 1: Mouser; Supplier Part Number 1: N/A; Control Interface: 2-Wire Serial; Features: EEPROM Wiper Memory; Mounting Technology: Surface Mount; Code_JEDEC: MO-193; ComponentLink1Description: Manufacturer URL; ComponentLink1URL: http://www.maximintegrated.com/; ComponentLink2Description: Datasheet; ComponentLink2URL: http://datasheets.maximintegrated.com/en/ds/MAX5432-MAX5435.pdf; ComponentLink3Description: Package Specification; ComponentLink3URL: http://pdfserv.maximintegrated.com/package_dwgs/21-0114.PDF
footprint MAXM-Z6-1_N (SOT23, 6-Leads, Body 2.9x1.6mm, Pitch 0.95mm, IPC Medium Density)
footprint MAXM-Z6-1_L (SOT23, 6-Leads, Body 2.9x1.6mm, Pitch 0.95mm, IPC High Density)
footprint MAXM-Z6-1_M (SOT23, 6-Leads, Body 2.9x1.6mm, Pitch 0.95mm, IPC Low Density)
pins: 1 VDD (power) "Power-Supply Input. Bypass with a 0.1uF capacitor from VDD to GND", 2 GND (power) "Ground", 3 SCL (in) "I2C-Compatible Interface Clock Input", 4 SDA (io) "I2C-Compatible Interface Data Input", 5 W "Wiper Terminal", 6 L "Low Terminal"

## MAX5434PEZT+T
designator U?
I2C, Digital Potentiometers, 50 kohm Variable Resistor with 2-Wire Serial Control Interface, Non-Volatile, Linear Taper, 32 Steps, -40 to 85 degC, 6-pin TSOT (Z6+1), Pb-Free, Tape and Reel; PartNumber: MAX5434PEZT+T; DatasheetVersion: Rev. 3; PackageVersion: Rev. D, 05/2011; PackageReference: Z6+1; PackageDescription: 6-Pin Thin Small-Outline Transistor (Z6+1), Body 2.9 x 1.6 mm, Pitch 0.95 mm; Supplier 1: Digi-Key; Supplier Part Number 1: MAX5434PEZT+T-ND; Supplier 2: Mouser; Supplier Part Number 2: 700-MAX5434PEZT+T; Control Interface: 2-Wire Serial; Features: EEPROM Wiper Memory; Mounting Technology: Surface Mount; Code_JEDEC: MO-193; ComponentLink1Description: Manufacturer URL; ComponentLink1URL: http://www.maximintegrated.com/; ComponentLink2Description: Datasheet; ComponentLink2URL: http://datasheets.maximintegrated.com/en/ds/MAX5432-MAX5435.pdf; ComponentLink3Description: Package Specification; ComponentLink3URL: http://pdfserv.maximintegrated.com/package_dwgs/21-0114.PDF
footprint MAXM-Z6+1_N (SOT23, 6-Leads, Body 2.9x1.6mm, Pitch 0.95mm, IPC Medium Density)
footprint MAXM-Z6+1_L (SOT23, 6-Leads, Body 2.9x1.6mm, Pitch 0.95mm, IPC High Density)
footprint MAXM-Z6+1_M (SOT23, 6-Leads, Body 2.9x1.6mm, Pitch 0.95mm, IPC Low Density)
pins: 1 VDD (power) "Power-Supply Input. Bypass with a 0.1uF capacitor from VDD to GND", 2 GND (power) "Ground", 3 SCL (in) "I2C-Compatible Interface Clock Input", 4 SDA (io) "I2C-Compatible Interface Data Input", 5 W "Wiper Terminal", 6 L "Low Terminal"